# Altium footprint library qiwirelesstransmitterpcblib.PcbLib: 14 footprints
Each footprint in its own frame and in the unit in brackets; x right, y up, seen from the top. Pads: shape width x height; smd on the part's side, far side on the other; paste and mask are expansions set on the pad; w line width, h text height; cw(c..) or ccw(c..) is an arc to the next point about the centre after c.
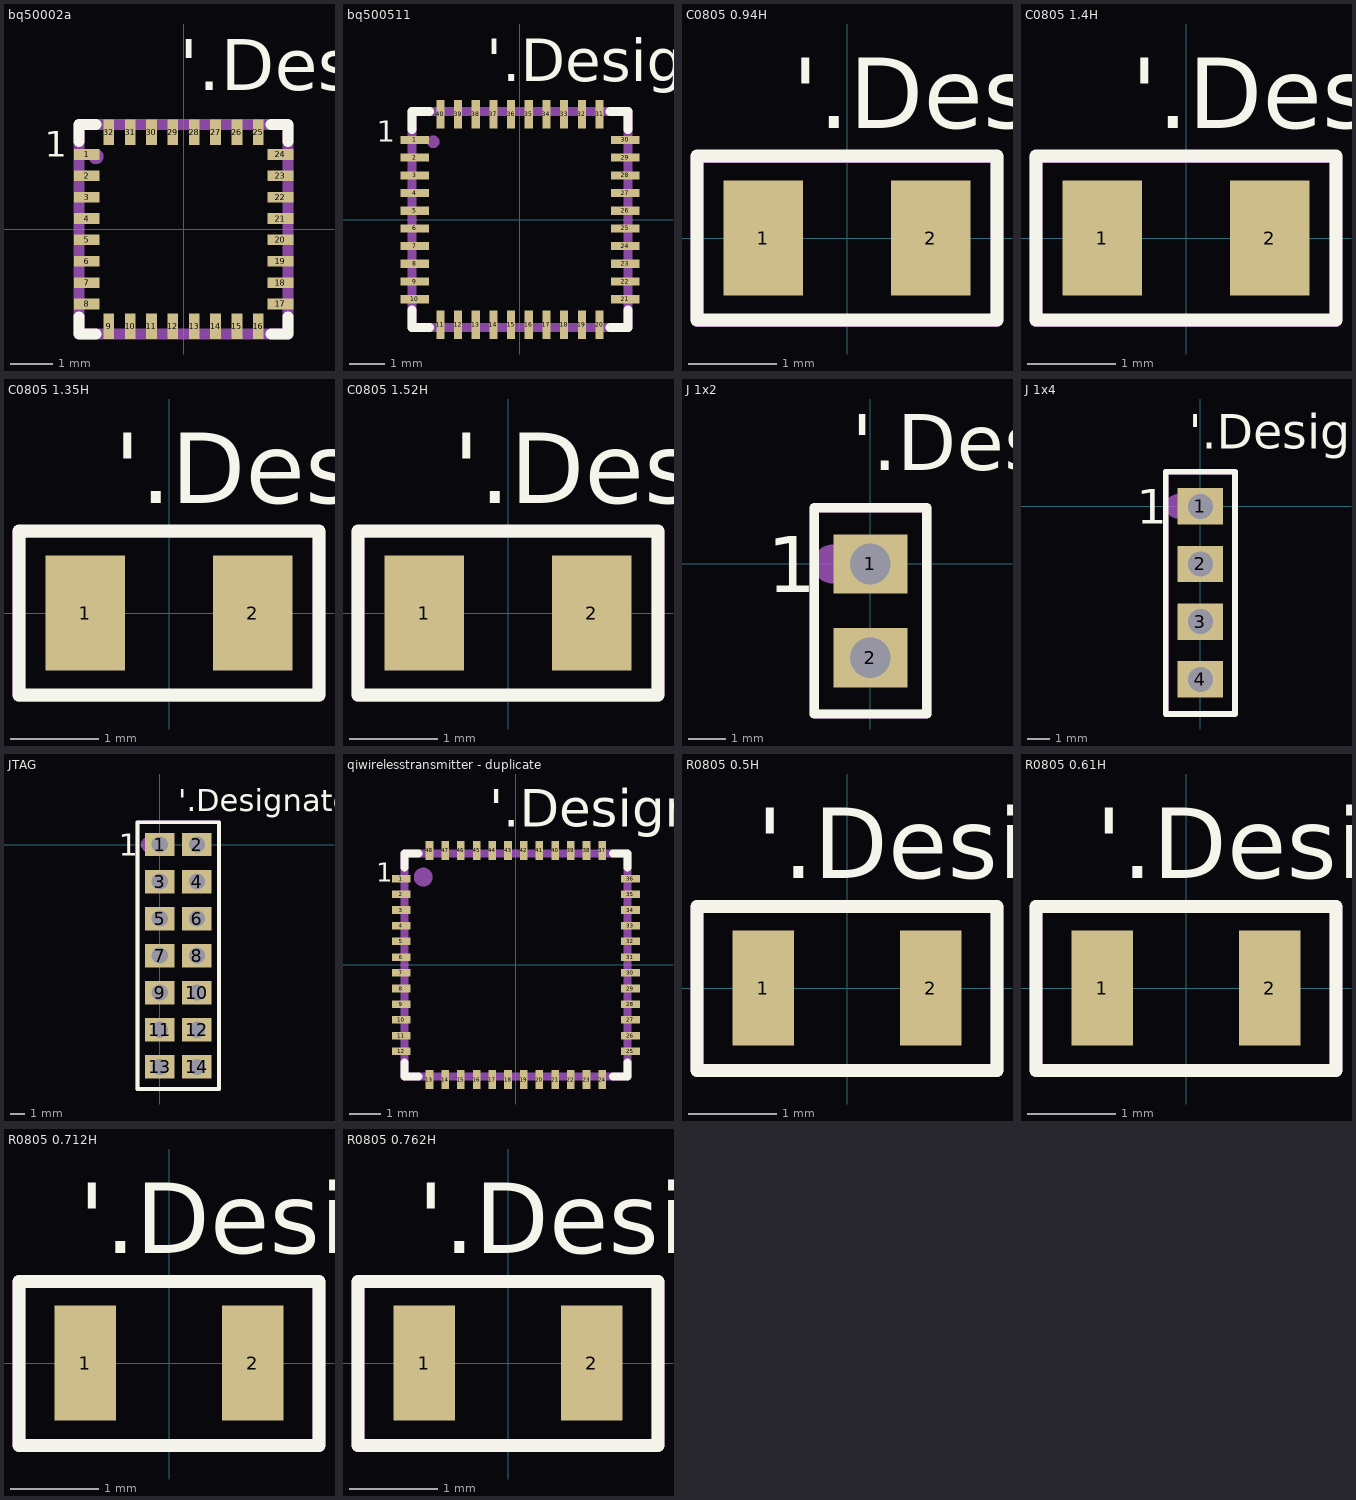
[diagram p0: the footprints below, top view; thin cyan lines are the x and y axes]

## bq50002a [mm]
pads (32):
  rect 0.6x0.25 smd mask+0.07: 1(-2.27,1.75) 2(-2.27,1.25) 3(-2.27,0.75) 4(-2.27,0.25) 5(-2.27,-0.25) 6(-2.27,-0.75) 7(-2.27,-1.25) 8(-2.27,-1.75) 17(2.27,-1.75) 18(2.27,-1.25) 19(2.27,-0.75) 20(2.27,-0.25) 21(2.27,0.25) 22(2.27,0.75) 23(2.27,1.25) 24(2.27,1.75)
  rect 0.25x0.6 smd mask+0.07: 9(-1.75,-2.27) 10(-1.25,-2.27) 11(-0.75,-2.27) 12(-0.25,-2.27) 13(0.25,-2.27) 14(0.75,-2.27) 15(1.25,-2.27) 16(1.75,-2.27) 25(1.75,2.27) 26(1.25,2.27) 27(0.75,2.27) 28(0.25,2.27) 29(-0.25,2.27) 30(-0.75,2.27) 31(-1.25,2.27) 32(-1.75,2.27)
Top Overlay:
  lines w0.254: -2.45,-2.05 -2.45,-2.45 -2.05,-2.45 ; -2.45,2.05 -2.45,2.45 -2.05,2.45 ; 2.05,-2.45 2.45,-2.45 2.45,-2.05 ; 2.05,2.45 2.45,2.45 2.45,2.05
  text "'.Designator'" at -0.096,3.254 h1.2
  text "1" at -3.25,1.7 h0.6
Mechanical 29 (Mech29):
  circle w0.254: c-2.05,1.7 r0.05
  lines w0.254: -2.45,-2.45 2.45,-2.45 2.45,2.4 2.4,2.45 -2.45,2.45 -2.45,-2.45
  text "'.Designator'" at -1.296,-0.196 h1.2
3D body "User Library-QFN-32-5x5 - EQ.step": height 0.85, standoff 0, extent -2.5,-2.5 2.5,2.5

## bq500511 [mm]
pads (40):
  rect 0.8x0.23 smd mask+0.07: 1(-2.975,2.25) 2(-2.975,1.75) 3(-2.975,1.25) 4(-2.975,0.75) 5(-2.975,0.25) 6(-2.975,-0.25) 7(-2.975,-0.75) 8(-2.975,-1.25) 9(-2.975,-1.75) 10(-2.975,-2.25) 21(2.975,-2.25) 22(2.975,-1.75) 23(2.975,-1.25) 24(2.975,-0.75) 25(2.975,-0.25) 26(2.975,0.25) 27(2.975,0.75) 28(2.975,1.25) 29(2.975,1.75) 30(2.975,2.25)
  rect 0.23x0.8 smd mask+0.07: 11(-2.25,-2.975) 12(-1.75,-2.975) 13(-1.25,-2.975) 14(-0.75,-2.975) 15(-0.25,-2.975) 16(0.25,-2.975) 17(0.75,-2.975) 18(1.25,-2.975) 19(1.75,-2.975) 20(2.25,-2.975) 31(2.25,2.975) 32(1.75,2.975) 33(1.25,2.975) 34(0.75,2.975) 35(0.25,2.975) 36(-0.25,2.975) 37(-0.75,2.975) 38(-1.25,2.975) 39(-1.75,2.975) 40(-2.25,2.975)
Top Overlay:
  lines w0.254: -3.05,-2.55 -3.05,-3.05 -2.55,-3.05 ; -3.05,2.55 -3.05,3.05 -2.55,3.05 ; 2.55,-3.05 3.05,-3.05 3.05,-2.55 ; 2.55,3.05 3.05,3.05 3.05,2.55
  text "'.Designator'" at -0.946,3.904 h1.2
  text "1" at -4.05,2.2 h0.6
Mechanical 29 (Mech29):
  circle w0.254: c-2.45,2.2 r0.05
  lines w0.254: -3.05,-3.05 -3.05,3.05 3.05,3.05 3.05,-3.05 -3.05,-3.05
  text "'.Designator'" at -1.146,-0.246 h1.2
3D body "User Library-QFN40-1.step": height 0.91, standoff 0.01, extent -3,-3 3,3

## C0805 0.94H [mm]
pads (2):
  rect 0.9x1.3 smd: 1(-0.95,0) 2(0.95,0)
Top Overlay:
  lines w0.15: -1.7,-0.93 1.7,-0.93 1.7,0.93 -1.7,0.93 -1.7,-0.93
  text "'.Designator'" at -0.62,1.247 h0.8
Mechanical 29 (Mech29):
  lines w0.15: -1.7,-0.935 -1.7,0.925 1.7,0.925 1.7,-0.935 -1.7,-0.935
  text "'.Designator'" at -0.92,-1.953 h0.8
3D body "User Library-0805 SMD Capacitor.step": height 0.92, standoff 0.14, extent -1,-0.625 1,0.625
3D body "User Library-0805 SMD Capacitor.step": height 0.79, standoff 0.01, extent -1,-0.625 1,0.625

## C0805 1.4H [mm]
pads (2):
  rect 0.9x1.3 smd: 1(-0.95,0) 2(0.95,0)
Top Overlay:
  lines w0.15: -1.7,-0.93 -1.7,0.93 1.7,0.93 1.7,-0.93 -1.7,-0.93
  text "'.Designator'" at -0.62,1.247 h0.8
Mechanical 29 (Mech29):
  lines w0.15: -1.7,-0.935 1.7,-0.935 1.7,0.925 -1.7,0.925 -1.7,-0.935
  text "'.Designator'" at -0.92,-1.953 h0.8
3D body "User Library-0805 SMD Capacitor.step": height 0.79, standoff 0.01, extent -1,-0.625 1,0.625
3D body "User Library-0805 SMD Capacitor.step": height 1.38, standoff 0.6, extent -1,-0.625 1,0.625

## C0805 1.35H [mm]
pads (2):
  rect 0.9x1.3 smd: 1(-0.95,0) 2(0.95,0)
Top Overlay:
  lines w0.15: -1.7,-0.93 -1.7,0.93 1.7,0.93 1.7,-0.93 -1.7,-0.93
  text "'.Designator'" at -0.62,1.247 h0.8
Mechanical 29 (Mech29):
  lines w0.15: -1.7,-0.935 1.7,-0.935 1.7,0.925 -1.7,0.925 -1.7,-0.935
  text "'.Designator'" at -0.92,-1.953 h0.8
3D body "User Library-0805 SMD Capacitor.step": height 0.79, standoff 0.01, extent -1,-0.625 1,0.625
3D body "User Library-0805 SMD Capacitor.step": height 1.33, standoff 0.55, extent -1,-0.625 1,0.625

## C0805 1.52H [mm]
pads (2):
  rect 0.9x1.3 smd: 1(-0.95,0) 2(0.95,0)
Top Overlay:
  lines w0.15: -1.7,-0.93 -1.7,0.93 1.7,0.93 1.7,-0.93 -1.7,-0.93
  text "'.Designator'" at -0.62,1.247 h0.8
Mechanical 29 (Mech29):
  lines w0.15: -1.7,-0.935 1.7,-0.935 1.7,0.925 -1.7,0.925 -1.7,-0.935
  text "'.Designator'" at -0.92,-1.953 h0.8
3D body "User Library-0805 SMD Capacitor.step": height 0.79, standoff 0.01, extent -1,-0.625 1,0.625
3D body "User Library-0805 SMD Capacitor.step": height 1.5, standoff 0.72, extent -1,-0.625 1,0.625

## J 1x2 [mm]
pads (2):
  rect 2x1.6 hole 1.1: 1(0,0) 2(0,-2.54)
Top Overlay:
  lines w0.254: -1.524,-4.064 -1.524,1.524 1.524,1.524 1.524,-4.064 -1.524,-4.064
  text "1" at -2.794,-0.762 h1.52
  text "'.Designator'" at -0.508,2.54 h1.52
Mechanical 29 (Mech29):
  circle w0.554: c-1.016,0 r0.254
  lines w0.254: 0,-4.064 -1.524,-4.064 ; -1.524,-4.064 -1.524,1.524 1.524,1.524 1.524,-4.064 -1.524,-4.064
  text "'.Designator'" at 0.254,-2.54 h1.52
3D body "1X2m20-8890245_asm.stp": height 8.51, standoff -2.98, extent -1.27,-3.81 1.23,1.27

## J 1x4 [mm]
pads (4):
  rect 2x1.6 hole 1.1: 1(0,0) 2(0,-2.54) 3(0,-5.08) 4(0,-7.62)
Top Overlay:
  lines w0.254: -1.524,-9.144 -1.524,1.524 1.524,1.524 1.524,-9.144 -1.524,-9.144
  text "'.Designator'" at -0.508,2.54 h1.52
  text "1" at -2.794,-0.762 h1.52
Mechanical 29 (Mech29):
  circle w0.554: c-1.016,0 r0.254
  lines w0.254: -1.524,-9.144 -1.524,1.524 1.524,1.524 1.524,-9.144 -1.524,-9.144
  text "'.Designator'" at 0.508,-5.08 h1.52
3D body "1x4m20-8890445_asm.stp": height 8.51, standoff -2.98, extent -1.23,-8.89 1.27,1.27

## JTAG [mm]
pads (14):
  rect 2x1.6 hole 1.1: 1(0,0) 2(2.54,0) 3(0,-2.54) 4(2.54,-2.54) 5(0,-5.08) 6(2.54,-5.08) 7(0,-7.62) 8(2.54,-7.62) 9(0,-10.16) 10(2.54,-10.16) 11(0,-12.7) 12(2.54,-12.7) 13(0,-15.24) 14(2.54,-15.24)
Top Overlay:
  lines w0.254: -1.524,-16.764 -1.524,1.524 4.064,1.524 4.064,-16.764 -1.524,-16.764
  text "1" at -2.794,-0.762 h1.52
  text "'.Designator'" at 1.27,2.286 h1.52
Mechanical 29 (Mech29):
  circle w0.554: c-0.762,0 r0.254
  lines w0.254: -1.524,-16.764 -1.524,1.524 4.064,1.524 4.064,-16.764 -1.524,-16.764
  text "'.Designator'" at 2.032,-11.43 h1.52
3D body "m20-9760742_asm.stp": height 8.35, standoff -3.13, extent -1.298,-16.51 3.838,1.286

## qiwirelesstransmitter - duplicate [mm]
pads (48):
  rect 0.6x0.24 smd mask+0.07: 1(-3.65,2.75) 2(-3.65,2.25) 3(-3.65,1.75) 4(-3.65,1.25) 5(-3.65,0.75) 6(-3.65,0.25) 7(-3.65,-0.25) 8(-3.65,-0.75) 9(-3.65,-1.25) 10(-3.65,-1.75) 11(-3.65,-2.25) 12(-3.65,-2.75) 25(3.65,-2.75) 26(3.65,-2.25) 27(3.65,-1.75) 28(3.65,-1.25) 29(3.65,-0.75) 30(3.65,-0.25) 31(3.65,0.25) 32(3.65,0.75) 33(3.65,1.25) 34(3.65,1.75) 35(3.65,2.25) 36(3.65,2.75)
  rect 0.24x0.6 smd mask+0.07: 13(-2.75,-3.65) 14(-2.25,-3.65) 15(-1.75,-3.65) 16(-1.25,-3.65) 17(-0.75,-3.65) 18(-0.25,-3.65) 19(0.25,-3.65) 20(0.75,-3.65) 21(1.25,-3.65) 22(1.75,-3.65) 23(2.25,-3.65) 24(2.75,-3.65) 37(2.75,3.65) 38(2.25,3.65) 39(1.75,3.65) 40(1.25,3.65) 41(0.75,3.65) 42(0.25,3.65) 43(-0.25,3.65) 44(-0.75,3.65) 45(-1.25,3.65) 46(-1.75,3.65) 47(-2.25,3.65) 48(-2.75,3.65)
Top Overlay:
  lines w0.254: -3.55,-3.1 -3.55,-3.55 -3.1,-3.55 ; -3.55,3.1 -3.55,3.55 -3.1,3.55 ; 3.1,-3.55 3.55,-3.55 3.55,-3.1 ; 3.1,3.55 3.55,3.55 3.55,3.1
  text "1" at -4.45,2.65 h0.6
  text "'.Designator'" at -0.846,4.404 h1.2
Mechanical 29 (Mech29):
  circle w0.3: c-2.95,2.8 r0.15
  lines w0.254: -3.55,-3.55 3.55,-3.55 3.55,3.55 -3.55,3.55 -3.55,-3.55
  text "'.Designator'" at -0.896,-0.146 h1.2
3D body "User Library-QFN_48.step": height 1.11, standoff 0.01, extent -3.5,-3.5 3.5,3.5

## R0805 0.5H [mm]
pads (2):
  rect 0.7x1.3 smd: 1(-0.95,0) 2(0.95,0)
Top Overlay:
  lines w0.15: -1.7,-0.935 -1.7,0.925 1.7,0.925 1.7,-0.935 -1.7,-0.935
  text "'.Designator'" at -1.02,1.247 h0.8
Mechanical 29 (Mech29):
  lines w0.15: -1.7,-0.935 1.7,-0.935 1.7,0.925 -1.7,0.925 -1.7,-0.935
  text "'.Designator'" at -0.32,-2.253 h0.8
3D body "0805 smd 1k resistor.stp": height 0.49, standoff -0.01, extent -1,-0.625 1,0.625

## R0805 0.61H [mm]
pads (2):
  rect 0.7x1.3 smd: 1(-0.95,0) 2(0.95,0)
Top Overlay:
  lines w0.15: -1.7,-0.935 1.7,-0.935 1.7,0.925 -1.7,0.925 -1.7,-0.935
  text "'.Designator'" at -1.02,1.247 h0.8
Mechanical 29 (Mech29):
  lines w0.15: -1.7,-0.935 -1.7,0.925 1.7,0.925 1.7,-0.935 -1.7,-0.935
  text "'.Designator'" at -0.32,-2.253 h0.8
3D body "0805 smd 1k resistor.stp": height 0.61, standoff 0.11, extent -1,-0.625 1,0.625
3D body "0805 smd 1k resistor.stp": height 0.49, standoff -0.01, extent -1,-0.625 1,0.625

## R0805 0.712H [mm]
pads (2):
  rect 0.7x1.3 smd: 1(-0.95,0) 2(0.95,0)
Top Overlay:
  lines w0.15: -1.7,-0.935 -1.7,0.925 1.7,0.925 1.7,-0.935 -1.7,-0.935
  text "'.Designator'" at -1.02,1.247 h0.8
Mechanical 29 (Mech29):
  lines w0.15: -1.7,-0.935 1.7,-0.935 1.7,0.925 -1.7,0.925 -1.7,-0.935
  text "'.Designator'" at -0.32,-2.253 h0.8
3D body "0805 smd 1k resistor.stp": height 0.49, standoff -0.01, extent -1,-0.625 1,0.625
3D body "0805 smd 1k resistor.stp": height 0.71, standoff 0.21, extent -1,-0.625 1,0.625

## R0805 0.762H [mm]
pads (2):
  rect 0.7x1.3 smd: 1(-0.95,0) 2(0.95,0)
Top Overlay:
  lines w0.15: -1.7,-0.935 1.7,-0.935 1.7,0.925 -1.7,0.925 -1.7,-0.935
  text "'.Designator'" at -1.02,1.247 h0.8
Mechanical 29 (Mech29):
  lines w0.15: -1.7,-0.935 -1.7,0.925 1.7,0.925 1.7,-0.935 -1.7,-0.935
  text "'.Designator'" at -0.32,-2.253 h0.8
3D body "0805 smd 1k resistor.stp": height 0.76, standoff 0.26, extent -1,-0.625 1,0.625
3D body "0805 smd 1k resistor.stp": height 0.49, standoff -0.01, extent -1,-0.625 1,0.625